# Altium schematic symbol library RC1206FR-07470KL.SchLib: 1 symbol
Pins are listed as number, name and electrical type; pins without a type are passive.

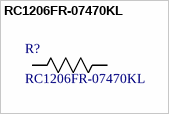
[diagram p0: symbol RC1206FR-07470KL]

## RC1206FR-07470KL
designator R?
No Description Available; Manufacturer_Name: Yageo; Copyright: Copyright (C) 2026 Ultra Librarian. All rights reserved.; Manufacturer_Part_Number: RC1206FR-07470KL
footprint RC1206N_YAG
pins: 1, 2